# EAGLE library part SI4946 (library Eagle Library)
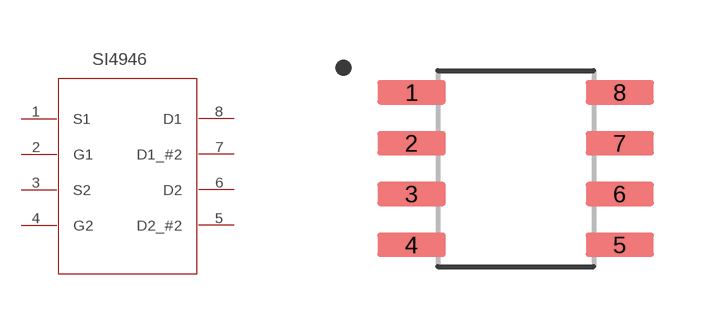
[diagram p1: symbol with the pads of SOIC127P600X175-8N; footprint SOIC127P600X175-8N]

Designator prefix -

## SI4946  [SOIC127P600X175-8N]
1  S1
2  G1
3  S2
4  G2
5  D2_#2
6  D2
7  D1_#2
8  D1

## Footprint SOIC127P600X175-8N (pad centres in mm)
smd 1.71 x 0.61: 1 -2.605,1.905; 2 -2.605,0.635; 3 -2.605,-0.635; 4 -2.605,-1.905; 5 2.605,-1.905; 6 2.605,-0.635; 7 2.605,0.635; 8 2.605,1.905